# EAGLE library part BEE-OPENBEE (library moudle)
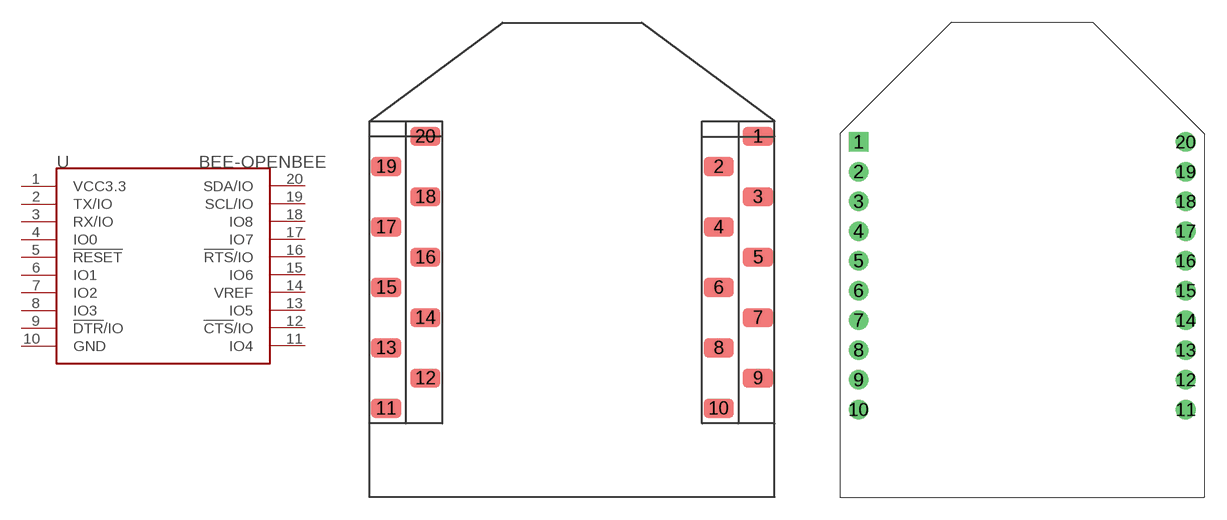
[diagram p1: symbol with the pads of 20P-SMD-2.0-PRO; footprints 20P-SMD-2.0-PRO, 20P-DIP-2.0-PRO]

Designator prefix U

## BEE-OPENBEE-SMD  [20P-SMD-2.0-PRO]
1  VCC3.3
2  TX/IO
3  RX/IO
4  IO0
5  !RESET
6  IO1
7  IO2
8  IO3
9  !DTR!/IO
10  GND
11  IO4
12  !CTS!/IO
13  IO5
14  VREF
15  IO6
16  !RTS!/IO
17  IO7
18  IO8
19  SCL/IO
20  SDA/IO

## BEE-OPENBEE-PRO  [20P-DIP-2.0-PRO]
Pads as for 20P-SMD-2.0-PRO

## BEE-OPENBEE-DIP  [20P-DIP-2.0]
Pads as for 20P-SMD-2.0-PRO

## BEE-OPENBEE  [20-DIP-2.0-W/-SILK]
Pads as for 20P-SMD-2.0-PRO

## Footprint 20P-SMD-2.0-PRO (pad centres in mm)
smd 2 x 1.27: 1 12.3,9; 2 9.7,7; 3 12.3,5; 4 9.7,3; 5 12.3,1; 6 9.7,-1; 7 12.3,-3; 8 9.7,-5; 9 12.3,-7; 10 9.7,-9; 11 -12.3,-9; 12 -9.7,-7; 13 -12.3,-5; 14 -9.7,-3; 15 -12.3,-1; 16 -9.7,1; 17 -12.3,3; 18 -9.7,5; 19 -12.3,7; 20 -9.7,9

## Footprint 20P-DIP-2.0-PRO (pad centres in mm)
drill 0.813 square: 1 -11,9
drill 0.813: 2 -11,7; 3 -11,5; 4 -11,3; 5 -11,1; 6 -11,-1; 7 -11,-3; 8 -11,-5; 9 -11,-7; 10 -11,-9; 11 11,-9; 12 11,-7; 13 11,-5; 14 11,-3; 15 11,-1; 16 11,1; 17 11,3; 18 11,5; 19 11,7; 20 11,9

## Footprint 20P-DIP-2.0 (pad centres in mm)
drill 0.635 pad 1.016 square: 1 0,0.008
drill 0.635 pad 1.016: 2 0,-2.024; 3 0,-4.056; 4 0,-6.088; 5 0,-8.12; 6 0,-10.152; 7 0,-12.184; 8 0,-14.216; 9 0,-16.248; 10 0,-18.28; 11 22.123,-18.288; 12 22.123,-16.256; 13 22.123,-14.224; 14 22.123,-12.192; 15 22.123,-10.16; 16 22.123,-8.128; 17 22.123,-6.096; 18 22.123,-4.064; 19 22.123,-2.032; 20 22.123,0

## Footprint 20-DIP-2.0-W/-SILK (pad centres in mm)
drill 0.635 pad 1.016 square: 1 0,0.008
drill 0.635 pad 1.016: 2 0,-2.024; 3 0,-4.056; 4 0,-6.088; 5 0,-8.12; 6 0,-10.152; 7 0,-12.184; 8 0,-14.216; 9 0,-16.248; 10 0,-18.28; 11 22.123,-18.288; 12 22.123,-16.256; 13 22.123,-14.224; 14 22.123,-12.192; 15 22.123,-10.16; 16 22.123,-8.128; 17 22.123,-6.096; 18 22.123,-4.064; 19 22.123,-2.032; 20 22.123,0